# Altium footprint library 214450982.PcbLib: 1 footprints
Each footprint in its own frame and in the unit in brackets; x right, y up, seen from the top. Pads: shape width x height; smd on the part's side, far side on the other; paste and mask are expansions set on the pad; w line width, h text height; cw(c..) or ccw(c..) is an arc to the next point about the centre after c.
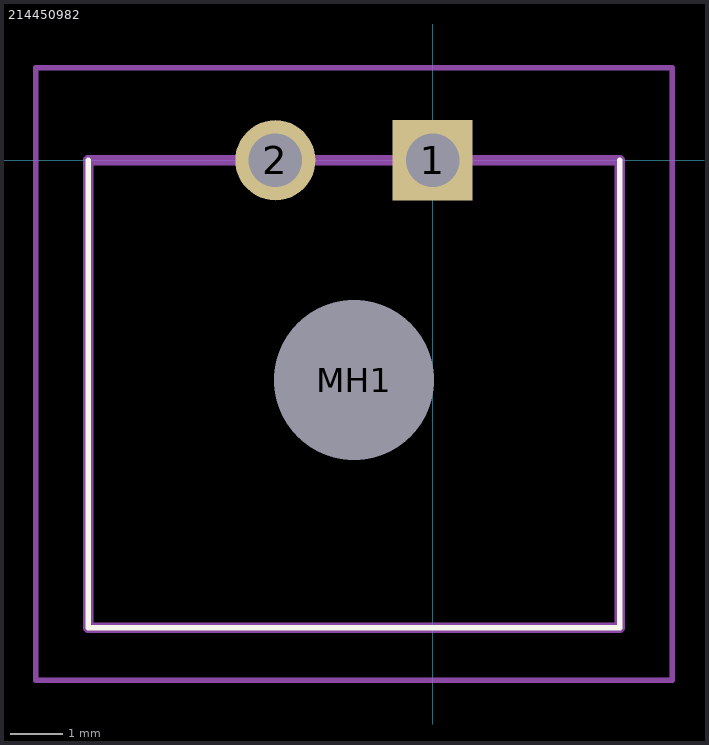
[diagram p0: the footprint, top view; thin cyan lines are the x and y axes]

## 214450982 [mm]
pads (3):
  rect 1.53x1.53 hole 1.02: 1(0,0)
  round 1.53 hole 1.02: 2(-3,0)
  round 1.525 hole 3.05 unplated: MH1(-1.5,-4.193)
Top Overlay:
  lines w0.1: -6.57,-8.92 3.57,-8.92 ; -6.57,-8.92 3.57,-8.92 ; -6.57,-8.92 -6.57,0 -6.57,-8.92 ; 3.57,-8.92 3.57,0 3.57,-8.92
Mechanical 15:
  lines w0.2: -6.57,-8.92 -6.57,0 3.57,0 3.57,-8.92 -6.57,-8.92
Mechanical 20:
  lines w0.1: -7.57,-9.92 -7.57,1.765 4.57,1.765 4.57,-9.92 -7.57,-9.92
3D body "2-1445098-2.stp": height 5.77, standoff -3.41, extent -6.594,-8.89 3.546,0.84